# Altium schematic symbol library Vishay.SchLib: 2 symbols
Pins are listed as number, name and electrical type; pins without a type are passive.

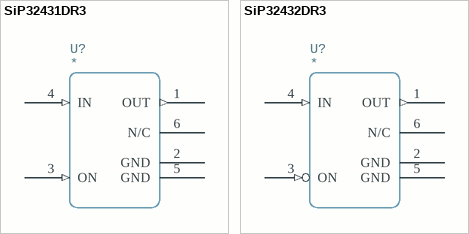
[diagram p0: symbols SiP32431DR3 to SiP32432DR3]

## SiP32431DR3
designator U?
pins: 1 OUT (out), 2 GND, 3 ON (in), 4 IN (in), 5 GND, 6 N/C

## SiP32432DR3
designator U?
pins: 1 OUT (out), 2 GND, 3 ON (in), 4 IN (in), 5 GND, 6 N/C